# Altium footprint library Device.PcbLib: 66 footprints (part 1 of 5)
Each footprint in its own frame and in the unit in brackets; x right, y up, seen from the top. Pads: shape width x height; smd on the part's side, far side on the other; paste and mask are expansions set on the pad; w line width, h text height; cw(c..) or ccw(c..) is an arc to the next point about the centre after c.
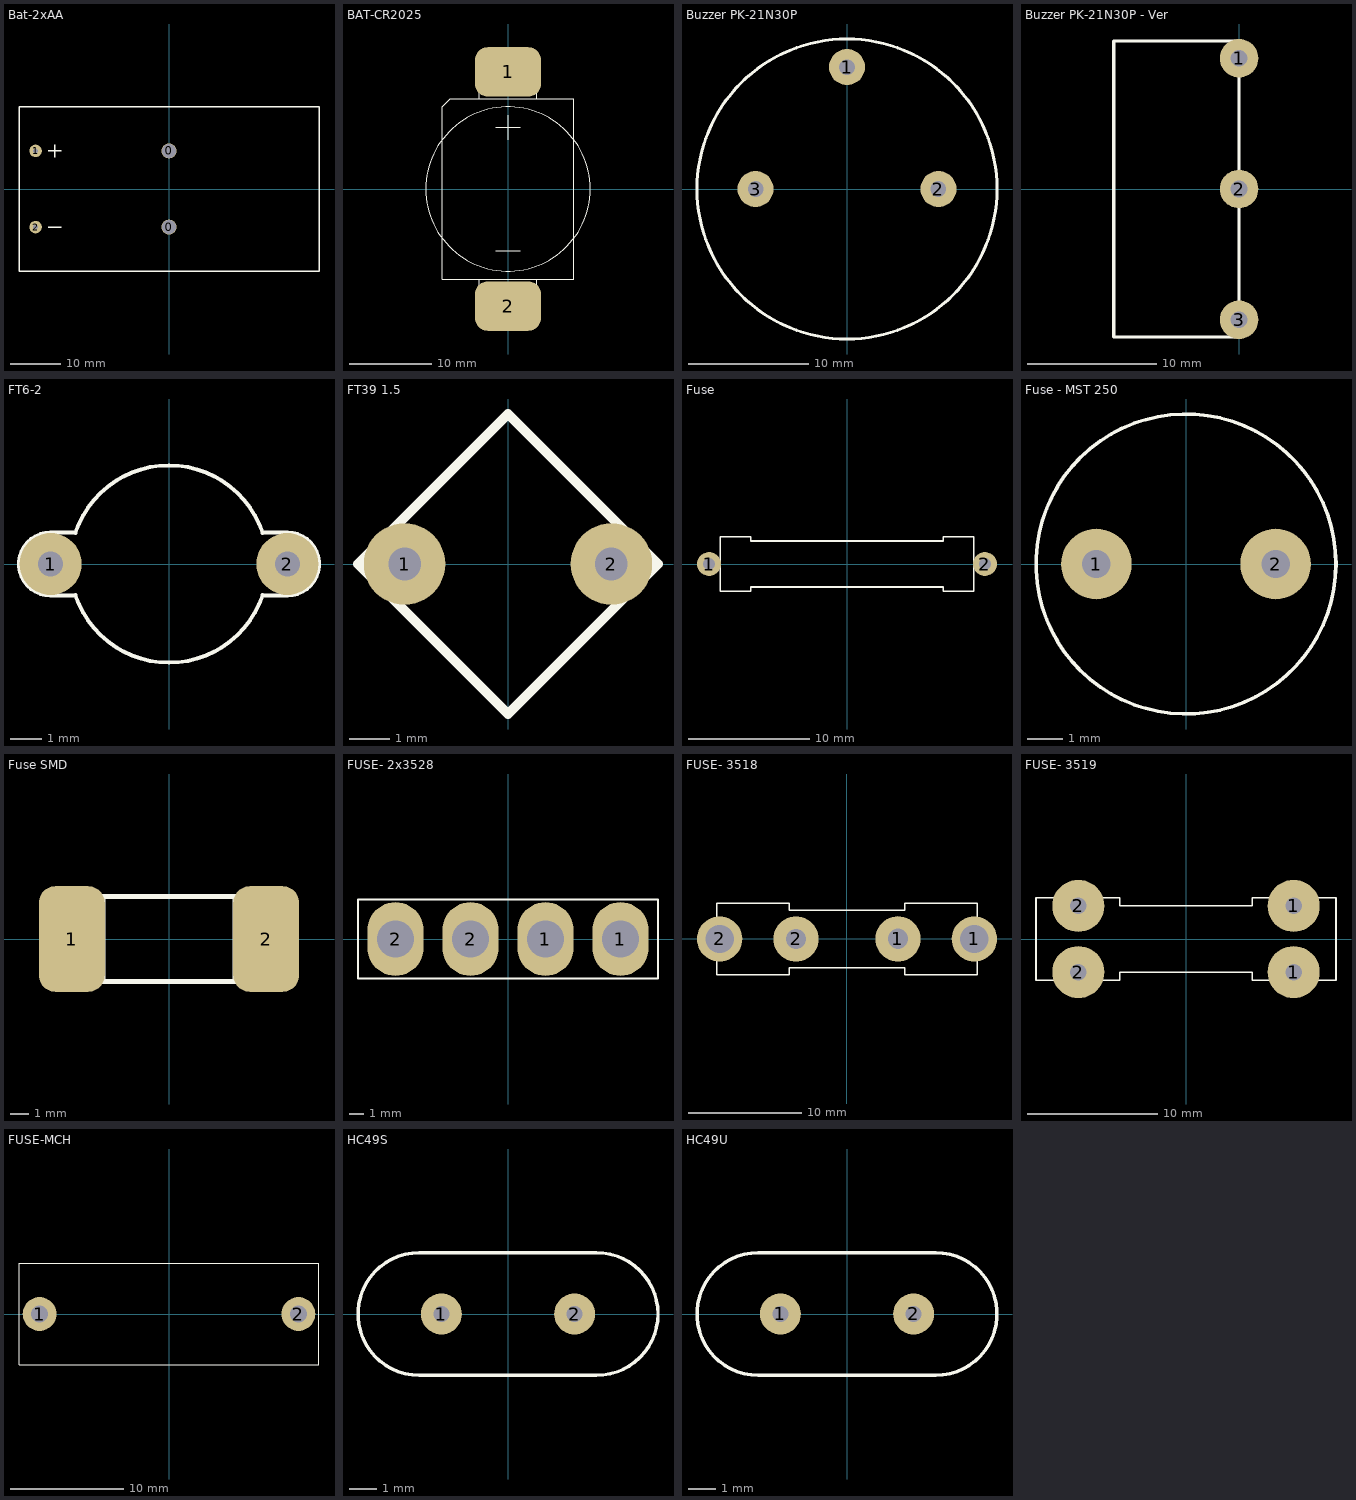
[diagram p0: the footprints below, top view; thin cyan lines are the x and y axes]

## AC-Filter 1 [mm]

## Bat-2xAA [mm]
pads (4):
  round 3 hole 2.8: 0(0,-7.62) 0(0,7.62)
  round 2.5 hole 1: 1(-26.67,7.62) 2(-26.67,-7.62)
Top Overlay:
  lines w0.254: -24.13,-7.62 -21.59,-7.62 ; -24.13,7.62 -21.59,7.62 ; -22.86,6.35 -22.86,8.89 ; -30,-16.5 30,-16.5 30,16.5 -30,16.5 -30,-16.5

## BAT-CR2025 [mm]
pads (2):
  rrect50% 8x6 smd: 1(0,14.25) 2(0,-14.25)
Top Overlay:
  circle w0.127: c0,0 r10
  lines w0.127: -3.5,-11 -3.5,-14.25 3.5,-14.25 3.5,-11 ; -3.5,11 -3.5,14.25 3.5,14.25 3.5,11 ; -1.5,-7.5 1.5,-7.5 ; -1.5,7.5 1.5,7.5 ; 0,6 0,9 ; -8,-11 8,-11 8,11 -7,11 -8,10 -8,-11

## Buzzer PK-21N30P [mm]
pads (3):
  round 3 hole 1.3: 1(0,10.16) 2(7.62,0) 3(-7.62,0)
Top Overlay:
  circle w0.254: c0,0 r12.5
3D body: height 9.8, standoff -6, extent -11.5,-11.5 11.5,11.5

## Buzzer PK-21N30P - Ver [mm]
pads (3):
  round 3 hole 1.3: 1(0,10.16) 2(0,0) 3(0,-10.16)
Top Overlay:
  lines w0.254: -9.75,-11.5 -9.75,11.5 0,11.5 0,-11.5 -9.75,-11.5
3D body: height 24, standoff 1, extent -9.8,-11.5 6,11.5

## FT6-2 [mm]
pads (2):
  round 2 hole 0.8: 1(-3.81,0) 2(3.81,0)
Top Overlay:
  lines w0.127: -3.012,-1.016 -3.81,-1.016 cw(c-3.81,0) -3.81,1.016 -3.012,1.016 ; -3.012,-1.004 ccw(c0,0) 3.012,-1.004 ; -3.012,1.004 cw(c0,0) 3.012,1.004 ; 3.012,-1.016 3.81,-1.016 ccw(c3.81,0) 3.81,1.016 3.012,1.016

## FT39 1.5 [mm]
pads (2):
  round 2 hole 0.8: 1(-2.54,0) 2(2.54,0)
Top Overlay:
  lines w0.254: -3.683,0 0,-3.683 3.683,0 0,3.683 -3.683,0

## Fuse [mm]
pads (2):
  round 2 hole 1: 1(-11.43,0) 2(11.43,0)
Top Overlay:
  lines w0.127: -10.5,-2.25 -10.5,2.25 -7.96,2.25 -7.96,1.905 7.96,1.905 7.96,2.25 10.5,2.25 10.5,-2.25 7.96,-2.25 7.96,-1.905 -7.96,-1.905 -7.96,-2.25 -10.5,-2.25

## Fuse - MST 250 [mm]
pads (2):
  round 2 hole 0.8: 1(-2.54,0) 2(2.54,0)
Top Overlay:
  circle w0.1: c0,0 r4.25
3D body: height 8.5, standoff 0, extent -4.216,-4.241 4.25,4.242

## Fuse SMD [mm]
pads (2):
  rrect50% 3.5x5.6 smd: 1(-5.15,0) 2(5.15,0)
Top Overlay:
  lines w0.254: -3.5,-2.25 -3.5,2.25 ; 3.5,-2.25 3.5,2.25 ; -6.05,-2.25 -6.05,2.25 6.05,2.25 6.05,-2.25 -6.05,-2.25

## FUSE- 2x3528 [mm]
pads (4):
  oval 3.8x5 hole 2.5: 1(2.54,0) 1(7.62,0) 2(-7.62,0) 2(-2.54,0)
Top Overlay:
  lines w0.127: -10.16,-2.667 10.16,-2.667 10.16,2.667 -10.16,2.667 -10.16,-2.667
3D body: height 8, standoff -4, extent 2.405,-0.985 7.755,1.965
3D body: height 8, standoff -4, extent -7.755,-0.985 -2.405,1.965

## FUSE- 3518 [mm]
pads (4):
  round 4 hole 1.8: 1(4.5,0.011) 2(-4.5,0)
  round 4 hole 2.5: 1(11.25,0) 2(-11.25,0)
Top Overlay:
  lines w0.127: -11.501,-3.175 -11.501,3.175 -5.08,3.175 -5.08,2.54 5.08,2.54 5.08,3.175 11.501,3.175 11.501,-3.175 5.08,-3.175 5.08,-2.54 -5.08,-2.54 -5.08,-3.175 -11.501,-3.175
3D body: height 9.6, standoff -2.54, extent -11.501,-3.175 -4.445,3.175
3D body: height 9.6, standoff -2.54, extent 4.445,-3.175 11.501,3.175
3D body: height 8.75, standoff 3.75, extent -10,-2.489 10,2.511

## FUSE- 3519 [mm]
pads (4):
  round 4 hole 1.25: 1(8.255,-2.54) 1(8.255,2.54) 2(-8.255,-2.54) 2(-8.255,2.54)
Top Overlay:
  lines w0.127: -11.501,-3.175 -5.08,-3.175 -5.08,-2.54 5.08,-2.54 5.08,-3.175 11.501,-3.175 11.501,3.175 5.08,3.175 5.08,2.54 -5.08,2.54 -5.08,3.175 -11.501,3.175 -11.501,-3.175
3D body: height 8.75, standoff 3.75, extent -10,-2.489 10,2.511
3D body: height 9.6, standoff -2.54, extent 4.445,-3.175 11.501,3.175
3D body: height 9.6, standoff -2.54, extent -11.501,-3.175 -4.445,3.175

## FUSE-MCH [mm]
pads (2):
  round 3 hole 1.5: 1(-11.43,0) 2(11.43,0)
Top Overlay:
  lines w0.1: -13.25,-4.5 13.25,-4.5 13.25,4.5 -13.25,4.5 -13.25,-4.5
3D body: height 15.5, standoff 0, extent -13.25,-4.5 13.25,4.5

## HC49S [mm]
pads (2):
  round 1.5 hole 0.6: 1(-2.44,0) 2(2.44,0)
Top Overlay:
  lines w0.127: 3.239,-2.25 -3.25,-2.25 cw(c-3.25,0) -3.25,2.25 3.24,2.25 cw(c3.25,0) 3.239,-2.25
3D body: height 3.7, standoff -2.5, extent -5.5,-2.25 5.5,2.25

## HC49U [mm]
pads (2):
  round 1.5 hole 0.6: 1(-2.44,0) 2(2.44,0)
Top Overlay:
  lines w0.127: -3.25,-2.25 cw(c-3.25,0) -3.25,2.25 3.25,2.25 cw(c3.25,0) 3.25,-2.25 -3.25,-2.25
3D body: height 12.7, standoff -2.5, extent -5.5,-2.25 5.5,2.25